# EAGLE library part MAS6240 (library mas)
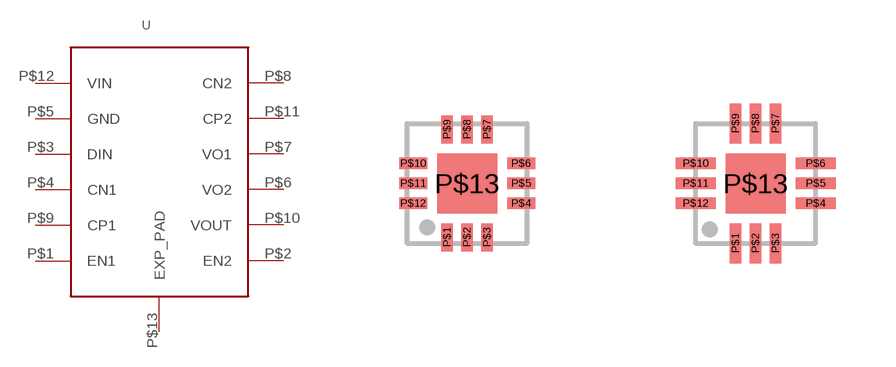
[diagram p0: symbol with the pads of QFN12_3X3; footprints QFN12_3X3, QFN12_3X3_LONGPADS]

Designator prefix -

## MAS6240NORM  [QFN12_3X3]
P$1  EN1
P$2  EN2
P$3  DIN
P$4  CN1
P$5  GND
P$6  VO2
P$7  VO1
P$8  CN2
P$9  CP1
P$10  VOUT
P$11  CP2
P$12  VIN
P$13  EXP_PAD

## MAS6240  [QFN12_3X3_LONGPADS]
Pads as for QFN12_3X3

## Footprint QFN12_3X3 (pad centres in mm)
smd 0.28 x 0.7: P$1 -0.5,-1.35; P$2 0,-1.35; P$3 0.5,-1.35; P$7 0.5,1.35; P$8 0,1.35; P$9 -0.5,1.35
smd 0.7 x 0.28: P$4 1.35,-0.5; P$5 1.35,0; P$6 1.35,0.5; P$10 -1.35,0.5; P$11 -1.35,0; P$12 -1.35,-0.5
smd 1.5 x 1.5: P$13 0,0

## Footprint QFN12_3X3_LONGPADS (pad centres in mm)
smd 0.28 x 1: P$1 -0.5,-1.5; P$2 0,-1.5; P$3 0.5,-1.5; P$7 0.5,1.5; P$8 0,1.5; P$9 -0.5,1.5
smd 1 x 0.28: P$4 1.5,-0.5; P$5 1.5,0; P$6 1.5,0.5; P$10 -1.5,0.5; P$11 -1.5,0; P$12 -1.5,-0.5
smd 1.5 x 1.5: P$13 0,0